# Altium footprint library TFTLCD_2.2.PcbLib: 1 footprints
Each footprint in its own frame and in the unit in brackets; x right, y up, seen from the top. Pads: shape width x height; smd on the part's side, far side on the other; paste and mask are expansions set on the pad; w line width, h text height; cw(c..) or ccw(c..) is an arc to the next point about the centre after c.
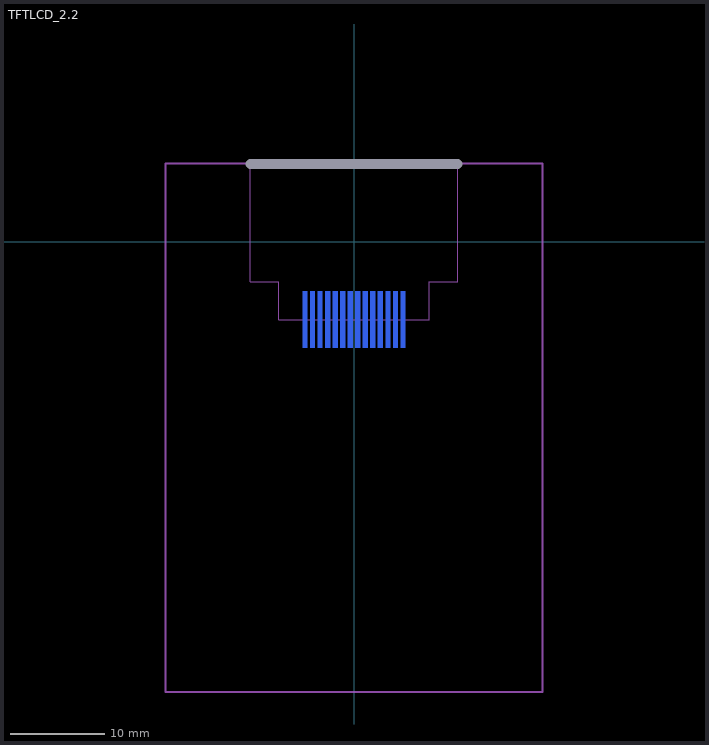
[diagram p0: the footprint, top view; thin cyan lines are the x and y axes]

## TFTLCD_2.2 [mm] "2.2 inch TFT Connector"
pads (15):
  rect 0x0 hole 1 slot 23 at 0 deg unplated mask+0.05: 0(0,8.265)
  rect 0.5x6 smd far side mask+0.05: 1(5.2,-8.265) 2(4.4,-8.265) 3(3.6,-8.265) 4(2.8,-8.265) 5(2,-8.265) 6(1.2,-8.265) 7(0.4,-8.265) 8(-0.4,-8.265) 9(-1.2,-8.265) 10(-2,-8.265) 11(-2.8,-8.265) 12(-3.6,-8.265) 13(-4.4,-8.265) 14(-5.2,-8.265)
Bottom Overlay:
  lines w0.254: -11.049,-3.82 -11.049,-4.328 -10.541,-4.328 ; -8.001,-7.63 -8.001,-8.265 -7.62,-8.265 ; 7.62,-8.265 8.001,-8.265 8.001,-7.63 ; 10.541,-4.328 11.049,-4.328 11.049,-3.82
  text "1" at 5.08,-11.44 h1
  text "14" at -5.588,-11.44 h1
Mechanical 13:
  lines w0.2: -20.05,-47.863 20.05,-47.863 20.05,8.325 -20.05,8.325 -20.05,-47.863
Mechanical 15:
  lines w0.1: -11,7.735 -11,-4.265 -8,-4.265 -8,-8.265 6,-8.265 8,-8.265 8,-4.265 11,-4.265 11,7.735
3D body: height 3.15, standoff -0.5, extent -20.05,-47.863 20.05,8.325